# Altium footprint library 2021-03-01_23-58-07.PcbLib: 1 footprints
Each footprint in its own frame and in the unit in brackets; x right, y up, seen from the top. Pads: shape width x height; smd on the part's side, far side on the other; paste and mask are expansions set on the pad; w line width, h text height; cw(c..) or ccw(c..) is an arc to the next point about the centre after c.
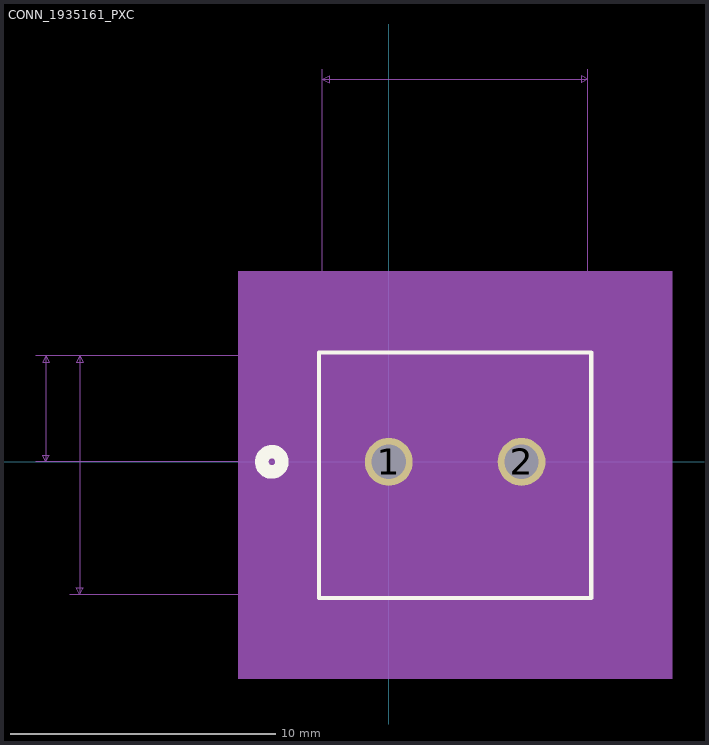
[diagram p0: the footprint, top view; thin cyan lines are the x and y axes]

## CONN_1935161_PXC [mil]
pads (2):
  round 71 hole 51 mask+0: 1(0,0) 2(196.85,0)
Top Overlay:
  circle w20: c-173.43,0 r15
  lines w6: -103.43,-201.85 300.28,-201.85 300.28,162.48 -103.43,162.48 -103.43,-201.85
Bottom Overlay:
  circle w20: c-173.43,0 r15
Mechanical 5:
  region: -223.43,282.48 420.28,282.48 420.28,-321.85 -223.43,-321.85
Mechanical 7:
  lines w1: -523.43,0 98.43,0 ; -523.43,157.48 -98.43,157.48 ; -473.43,-196.85 -98.43,-196.85 ; -473.43,157.48 -98.43,157.48 ; -98.43,582.48 -98.43,157.48 ; 0,257.48 0,0 ; 196.85,0 196.85,257.48 ; 295.28,157.48 295.28,582.48 ; 395.28,-50 395.28,0 ; 395.28,50 395.28,0 ; -508.43,0 -508.43,157.48 ; -508.43,0 -513.43,10 -503.43,10 -508.43,0 ; -508.43,157.48 -513.43,147.48 -503.43,147.48 -508.43,157.48 ; -458.43,-196.85 -458.43,157.48 ; -458.43,-196.85 -463.43,-186.85 -453.43,-186.85 -458.43,-196.85 ; -458.43,157.48 -463.43,147.48 -453.43,147.48 -458.43,157.48 ; -98.43,567.48 295.28,567.48 ; -98.43,567.48 -88.43,572.48 -88.43,562.48 -98.43,567.48 ; 0,0 410.28,0 0,0 ; 0,242.48 196.85,242.48 ; 0,242.48 10,247.48 10,237.48 0,242.48 ; 196.85,242.48 186.85,247.48 186.85,237.48 196.85,242.48 ; 295.28,567.48 285.28,572.48 285.28,562.48 295.28,567.48 ; 395.28,0 390.28,10 400.28,10 395.28,0 ; 395.28,0 390.28,-10 400.28,-10 395.28,0
  text "Default Padstyle: EX71Y71D51P" at -264.07,-356.85 h50
  text "1st Mtg Padstyle: RX110Y80D50P" at -276.57,-431.85 h50
  text "2nd Mtg Padstyle: EX70Y70D70P" at -264.07,-506.85 h50
  text "3rd Mtg Padstyle: EX70Y70D70P" at -264.07,-581.85 h50
  text "Left Mtg Padstyle: EX60Y60D30P" at -276.57,-656.85 h50
  text "Right Mtg Padstyle: EX60Y60D30P" at -289.07,-731.85 h50
  text "Alt Padstyle 1: OX60Y90D30P" at -239.07,-806.85 h50
  text "Alt Padstyle 2: OX90Y60D30P" at -239.07,-881.85 h50
  text "0.197in/5mm" at -117.96,262.48 h25
  text "0.394in/10mm" at 23.43,587.48 h25
  text "0in/0mm" at 415.28,-12.5 h25
  text "0.157in/4mm" at -665.93,66.24 h25
  text "0.354in/9mm" at -615.93,-32.19 h25
Mechanical 13:
  circle w20: c0,75 r15
  lines w1: -98.43,-196.85 295.28,-196.85 295.28,157.48 -98.43,157.48 -98.43,-196.85
Mechanical 15:
  region: 305.28,167.48 -108.43,167.48 -108.43,-206.85 305.28,-206.85
  lines w6: -108.43,-206.85 -108.43,167.48 305.28,167.48 305.28,-206.85 -108.43,-206.85
3D body: height 10, standoff 0, extent 0,0 10,10